# EAGLE library part BLE112 (library NMX_ControllerSide_v1-3)
Bluetooth low energy single mode module is a single mode device targeted for low power sensors and accessories.
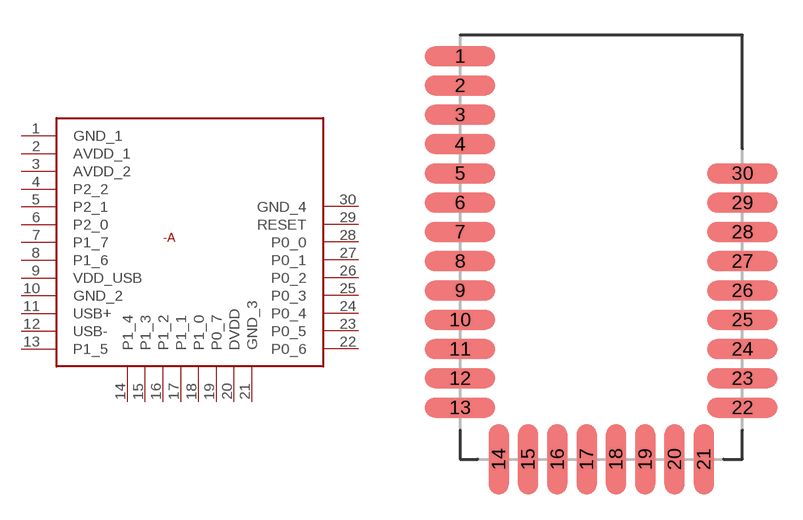
[diagram p0: symbol with the pads of BLE112-A; footprint BLE112-A]

Designator prefix -A

## BLE112  [BLE112-A]
1  GND_1  sup
2  AVDD_1  pwr
3  AVDD_2  pwr
4  P2_2
5  P2_1
6  P2_0
7  P1_7
8  P1_6
9  VDD_USB  pwr
10  GND_2  sup
11  USB+
12  USB-
13  P1_5
14  P1_4
15  P1_3
16  P1_2
17  P1_1
18  P1_0
19  P0_7
20  DVDD  pwr
21  GND_3  sup
22  P0_6
23  P0_5
24  P0_4
25  P0_3
26  P0_2
27  P0_1
28  P0_0
29  RESET  in
30  GND_4  sup

## Footprint BLE112-A (pad centres in mm)
smd 3 x 0.85: 1 -6.025,8.15; 2 -6.025,6.9; 3 -6.025,5.65; 4 -6.025,4.4; 5 -6.025,3.15; 6 -6.025,1.9; 7 -6.025,0.65; 8 -6.025,-0.6; 9 -6.025,-1.85; 10 -6.025,-3.1; 11 -6.025,-4.35; 12 -6.025,-5.6; 13 -6.025,-6.85; 22 6.025,-6.85; 23 6.025,-5.6; 24 6.025,-4.35; 25 6.025,-3.1; 26 6.025,-1.85; 27 6.025,-0.6; 28 6.025,0.65; 29 6.025,1.9; 30 6.025,3.15
smd 0.85 x 3: 14 -4.375,-9.05; 15 -3.125,-9.05; 16 -1.875,-9.05; 17 -0.625,-9.05; 18 0.625,-9.05; 19 1.875,-9.05; 20 3.125,-9.05; 21 4.375,-9.05